# Altium footprint library TY-311P.PcbLib: 1 footprints
Each footprint in its own frame and in the unit in brackets; x right, y up, seen from the top. Pads: shape width x height; smd on the part's side, far side on the other; paste and mask are expansions set on the pad; w line width, h text height; cw(c..) or ccw(c..) is an arc to the next point about the centre after c.
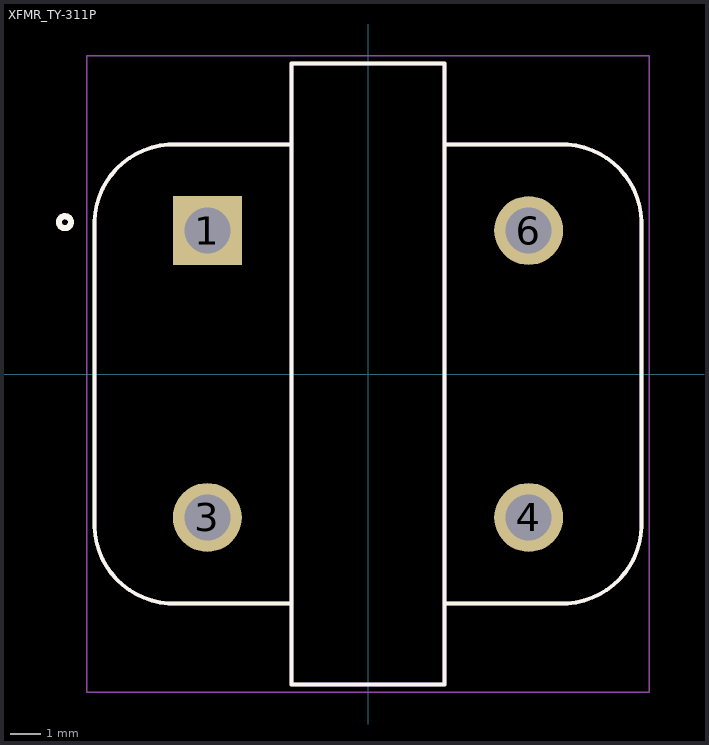
[diagram p0: the footprint, top view; thin cyan lines are the x and y axes]

## XFMR_TY-311P [mil]
pads (4):
  rect 90x90 hole 60: 1(-210,187.5)
  round 90 hole 60: 3(-210,-187.5) 4(210,-187.5) 6(210,187.5)
Top Overlay:
  circle w7.87: c-396.06,198.43 r7.87
  circle w7.87: c-396.06,198.43 r7.87
  circle w7.87: c-396.06,198.43 r7.87
  circle w7.87: c-396.06,198.43 r7.87
  lines w5: -357.5,-199.87 ccw(c-253.75,-196.25) -250.13,-300 ; -357.5,-199.87 ccw(c-253.75,-196.25) -250.13,-300 ; -357.5,-199.87 ccw(c-253.75,-196.25) -250.13,-300 ; -357.5,-199.87 ccw(c-253.75,-196.25) -250.13,-300 ; -357.5,199.87 cw(c-253.75,196.25) -250.13,300 ; -357.5,199.87 cw(c-253.75,196.25) -250.13,300 ; -357.5,199.87 cw(c-253.75,196.25) -250.13,300 ; -357.5,199.87 cw(c-253.75,196.25) -250.13,300 ; -100,-406 100,-406 ; -100,-406 -100,-300 ; -100,-406 100,-406 ; -100,-406 -100,-300 ; -100,-300 -100,300 ; -100,-300 -250,-300 -100,-300 ; -100,-300 -100,300 ; -100,300 -100,406 ; -100,300 -250,300 -100,300 ; -100,300 -100,406 ; -100,406 100,406 ; -100,406 100,406 ; 100,-406 100,-300 ; 100,-406 100,-300 ; 100,-300 100,300 ; 100,-300 250,-300 100,-300 ; 100,-300 100,300 ; 100,300 100,406 ; 100,300 250,300 100,300 ; 100,300 100,406 ; 250.13,-300 ccw(c253.75,-196.25) 357.5,-199.87 ; 250.13,-300 ccw(c253.75,-196.25) 357.5,-199.87 ; 250.13,-300 ccw(c253.75,-196.25) 357.5,-199.87 ; 250.13,-300 ccw(c253.75,-196.25) 357.5,-199.87 ; 250.13,300 cw(c253.75,196.25) 357.5,199.87 ; 250.13,300 cw(c253.75,196.25) 357.5,199.87 ; 250.13,300 cw(c253.75,196.25) 357.5,199.87 ; 250.13,300 cw(c253.75,196.25) 357.5,199.87 ; -357.5,-200 -357.5,200 -357.5,-200 ; 357.5,-200 357.5,200 357.5,-200
Mechanical 13:
  circle w7.87: c-396.06,198.43 r7.87
  circle w7.87: c-396.06,198.43 r7.87
  circle w7.87: c-396.06,198.43 r7.87
  circle w7.87: c-396.06,198.43 r7.87
  lines w5: -357.5,-199.87 ccw(c-253.75,-196.25) -250.13,-300 ; -357.5,-199.87 ccw(c-253.75,-196.25) -250.13,-300 ; -357.5,-199.87 ccw(c-253.75,-196.25) -250.13,-300 ; -357.5,-199.87 ccw(c-253.75,-196.25) -250.13,-300 ; -357.5,199.87 cw(c-253.75,196.25) -250.13,300 ; -357.5,199.87 cw(c-253.75,196.25) -250.13,300 ; -357.5,199.87 cw(c-253.75,196.25) -250.13,300 ; -357.5,199.87 cw(c-253.75,196.25) -250.13,300 ; -100,-406 100,-406 ; -100,-406 -100,-300 ; -100,-406 100,-406 ; -100,-406 -100,-300 ; -100,-300 -100,300 ; -100,-300 -250,-300 -100,-300 ; -100,-300 -100,300 ; -100,300 -100,406 ; -100,300 -250,300 -100,300 ; -100,300 -100,406 ; -100,406 100,406 ; -100,406 100,406 ; 100,-406 100,-300 ; 100,-406 100,-300 ; 100,-300 100,300 ; 100,-300 250,-300 100,-300 ; 100,-300 100,300 ; 100,300 100,406 ; 100,300 250,300 100,300 ; 100,300 100,406 ; 250.13,-300 ccw(c253.75,-196.25) 357.5,-199.87 ; 250.13,-300 ccw(c253.75,-196.25) 357.5,-199.87 ; 250.13,-300 ccw(c253.75,-196.25) 357.5,-199.87 ; 250.13,-300 ccw(c253.75,-196.25) 357.5,-199.87 ; 250.13,300 cw(c253.75,196.25) 357.5,199.87 ; 250.13,300 cw(c253.75,196.25) 357.5,199.87 ; 250.13,300 cw(c253.75,196.25) 357.5,199.87 ; 250.13,300 cw(c253.75,196.25) 357.5,199.87 ; -357.5,-200 -357.5,200 -357.5,-200 ; 357.5,-200 357.5,200 357.5,-200
Mechanical 15:
  lines w1.97: -367.34,-415.84 367.34,-415.84 367.34,415.84 -367.34,415.84 -367.34,-415.84